# EAGLE library part 691401710021 (library Terminal_Blocks_Connectors_rev15e)
WR-TBL Terminal block - serie 401 5,0mm - Spring clamp/Screw less - horizontal entry - 21p Code:Con_TBL_Screwless_5.00_6914017100xxB_691401710021 <http://katalog.we-online.de/media/images/eican/Con_TBL_Screwless_5.00_6914017100xxB_pf2.jpg> Details see: http://katalog.we-online.de/en/em/691_401_710_0xx/691_401_710_021B?m Created 2014-12-22, aslant tao 2014 (C) Würth Elektronik
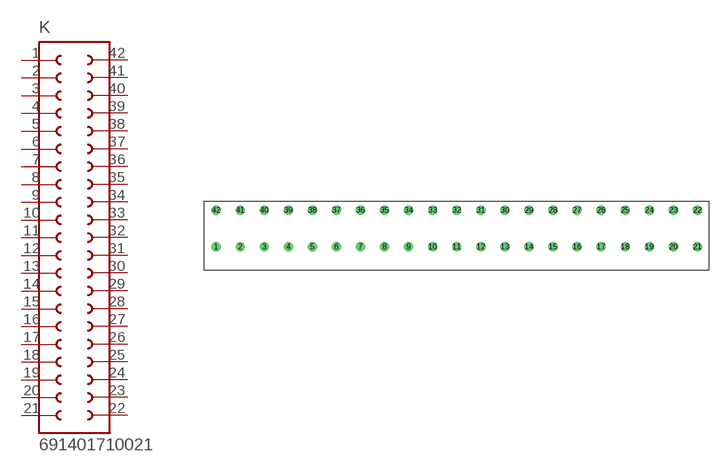
[diagram p250: symbol with the pads of 691401710021; footprint 691401710021]

Designator prefix K

## 691401710021  [691401710021]
1  1  pas
2  2  pas
3  3  pas
4  4  pas
5  5  pas
6  6  pas
7  7  pas
8  8  pas
9  9  pas
10  10  pas
11  11  pas
12  12  pas
13  13  pas
14  14  pas
15  15  pas
16  16  pas
17  17  pas
18  18  pas
19  19  pas
20  20  pas
21  21  pas
22  22  pas
23  23  pas
24  24  pas
25  25  pas
26  26  pas
27  27  pas
28  28  pas
29  29  pas
30  30  pas
31  31  pas
32  32  pas
33  33  pas
34  34  pas
35  35  pas
36  36  pas
37  37  pas
38  38  pas
39  39  pas
40  40  pas
41  41  pas
42  42  pas

## Footprint 691401710021 (pad centres in mm)
WR-TBL Serie 401 - 5.0mm Screwless Horizontal Entry - 2 mm2 Wires, 21 Pins
drill 1.3: 1 -50,0; 2 -45,0; 3 -40,0; 4 -35,0; 5 -30,0; 6 -25,0; 7 -20,0; 8 -15,0; 9 -10,0; 10 -5,0; 11 0,0; 12 5,0; 13 10,0; 14 15,0; 15 20,0; 16 25,0; 17 30,0; 18 35,0; 19 40,0; 20 45,0; 21 50,0; 22 50,7.62; 23 45,7.62; 24 40,7.62; 25 35,7.62; 26 30,7.62; 27 25,7.62; 28 20,7.62; 29 15,7.62; 30 10,7.62; 31 5,7.62; 32 0,7.62; 33 -5,7.62; 34 -10,7.62; 35 -15,7.62; 36 -20,7.62; 37 -25,7.62; 38 -30,7.62; 39 -35,7.62; 40 -40,7.62; 41 -45,7.62; 42 -50,7.62